# EAGLE library part ESD224 (library distributed-vision)
14V Clamp 2A (8/20µs) Ipp Tvs Diode Surface Mount 10-USON (2.5x1)
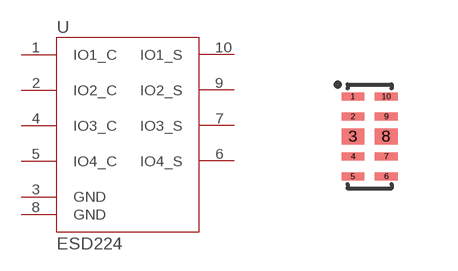
[diagram p0: symbol with the pads of USON(10); footprint USON(10)]

Designator prefix U

## ESD224 (DKPN: 296-51107-1-ND)  [USON(10)]
1  IO1_C
2  IO2_C
3  GND
4  IO3_C
5  IO4_C
6  IO4_S
7  IO3_S
8  GND
9  IO2_S
10  IO1_S

## Footprint USON(10) (pad centres in mm)
smd 0.565 x 0.2: 1 -0.417,1; 2 -0.417,0.5; 4 -0.417,-0.5; 5 -0.417,-1; 6 0.417,-1; 7 0.417,-0.5; 9 0.417,0.5; 10 0.417,1
smd 0.565 x 0.4: 3 -0.417,0; 8 0.417,0